# EAGLE library part TPS6103X (library X893)
Page <http://www.ti.com/product/TPS61030/description> Datasheet <http://www.ti.com/lit/ds/slus534f/slus534f.pdf>
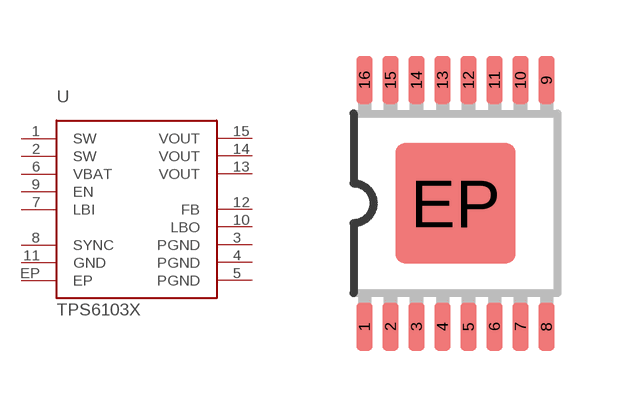
[diagram p227: symbol with the pads of TSSOP16-EP; footprint TSSOP16-EP]

Designator prefix U

## TPS6103X  [TSSOP16-EP]
1  SW
2  SW
3  PGND  pwr
4  PGND  pwr
5  PGND  pwr
6  VBAT
7  LBI
8  SYNC
9  EN
10  LBO
11  GND  pwr
12  FB
13  VOUT
14  VOUT
15  VOUT
16  NC  nc
EP  EP  pwr

## Footprint TSSOP16-EP (pad centres in mm)
TSOP16 thin small outline package
smd 0.4 x 1.2: 1 -2.275,-3.087; 2 -1.625,-3.087; 3 -0.975,-3.087; 4 -0.325,-3.087; 5 0.325,-3.087; 6 0.975,-3.087; 7 1.625,-3.087; 8 2.275,-3.087; 9 2.275,3.087; 10 1.625,3.087; 11 0.975,3.087; 12 0.325,3.087; 13 -0.325,3.087; 14 -0.975,3.087; 15 -1.625,3.087; 16 -2.275,3.087
smd 3 x 3: EP 0,0